# Altium schematic symbol library LED.SchLib: 21 symbols
Pins are listed as number, name and electrical type; pins without a type are passive.

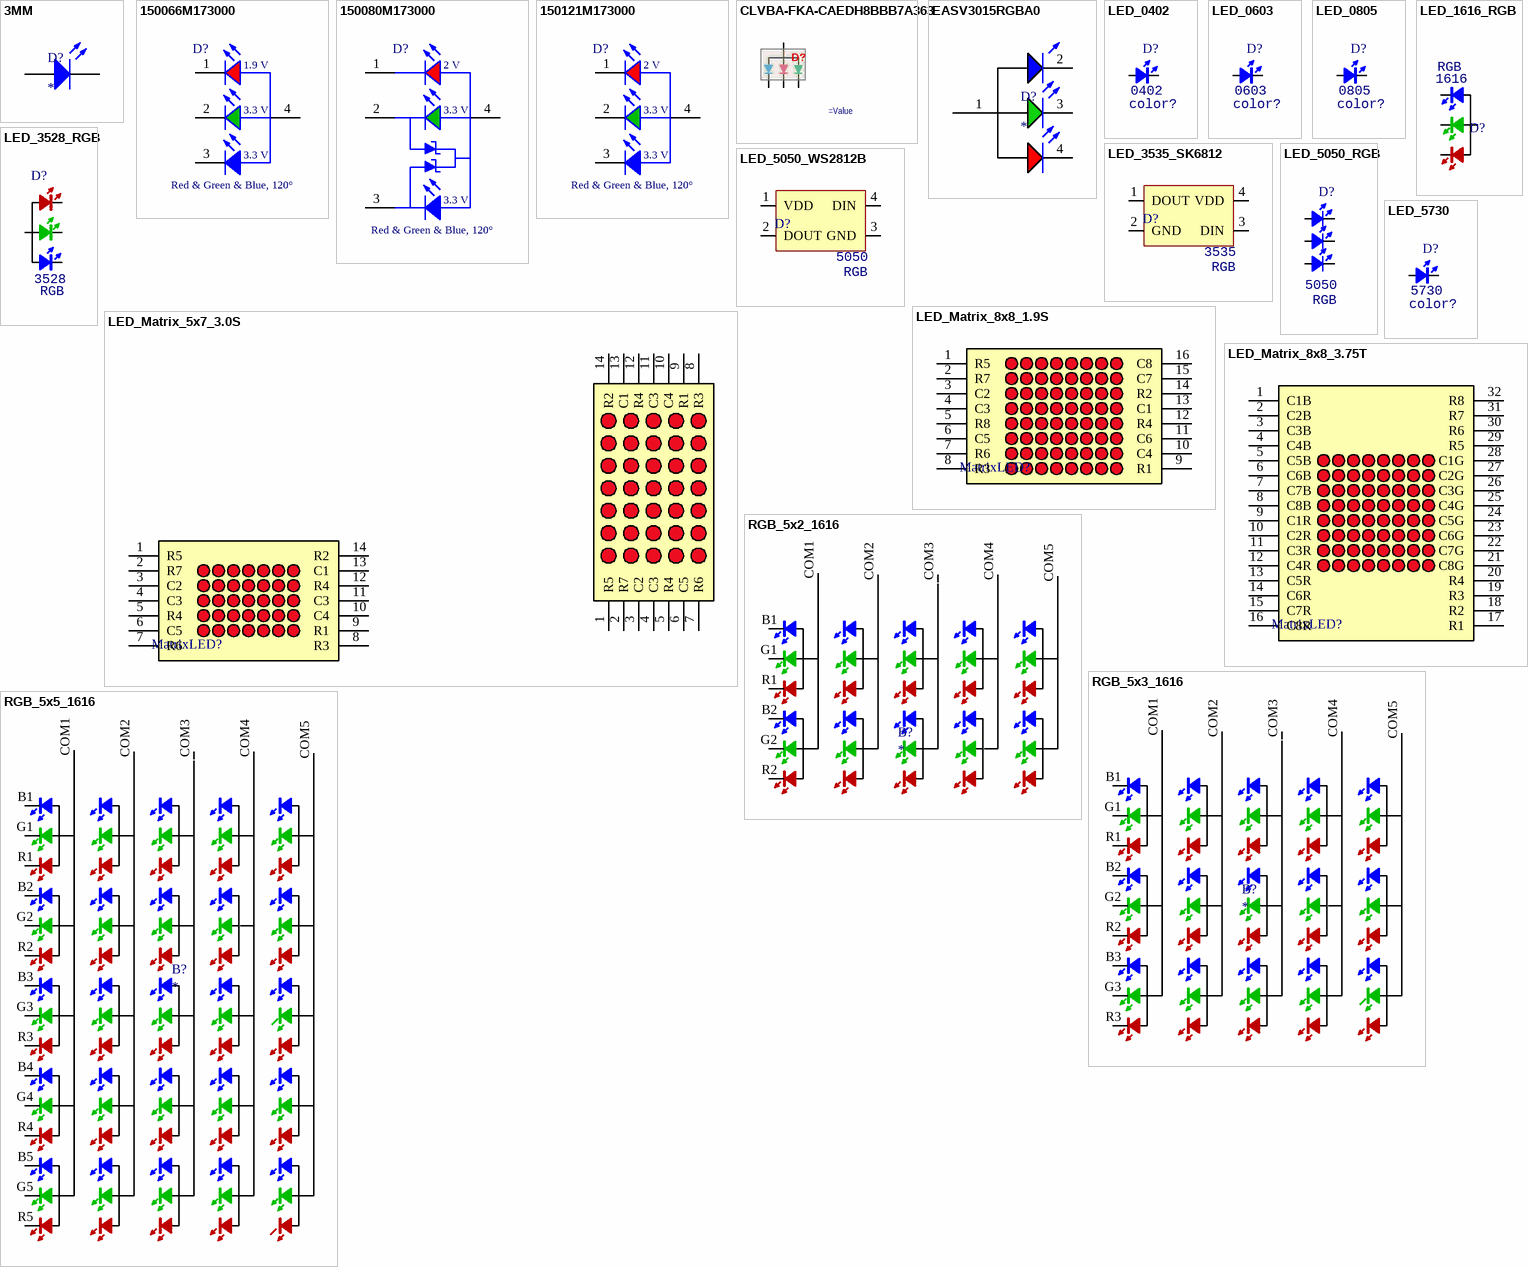
[diagram p0: symbols 3MM to RGB_5x5_1616]

## 3MM
designator D?
pins: 1 A, 2 K

## 150066M173000
designator D?, comment Red & Green & Blue, 120°
WL-SFCW SMD Full-color Chip LED Waterclear, size 0606, Red & Green & Blue, 120°; Part Number: 150066M173000; Forward Voltage: 3.3 V@Blue, 3.3 V@Green, 1.9 V@Red; Peak Wavelength: 468 nm@Blue, 520 nm@Green, 636 nm@Red; Dominant Wavelength: 470 nm@Blue, 527 nm@Green, 622 nm@Red; Luminous Intensity: 80 mcd@Blue, 360 mcd@Green, 70 mcd@Red; ComponentLink1Description: Manufacturer; ComponentLink1URL: http://www.we-online.de; ComponentLink2Description: Datasheet; ComponentLink2URL: http://katalog.we-online.de/led/datasheet/150066M173000.pdf; Published Date: May 2018; Publisher: Wurth Elektronik; Size: 0606; Viewing Angle: 120°; Operating Temperature: -40 to 85 degC; Emitting Color: Red & Green & Blue; Mounting Technology: SMT
footprint WL-SFCW_0606
pins: 1 K, 2 K, 3 K, 4 A
text: 1.9 V; 3.3 V

## 150080M173000
designator D?, comment Red & Green & Blue, 120°
WL-SFCW SMD Full-color Chip LED Waterclear, size 0805, Red & Green & Blue, 120°; Part Number: 150080M173000; Forward Voltage: 3.3 V@Blue, 3.3 V@Green, 2 V@Red; Peak Wavelength: 468 nm@Blue, 520 nm@Green, 632 nm@Red; Dominant Wavelength: 470 nm@Blue, 525 nm@Green, 624 nm@Red; Luminous Intensity: 70 mcd@Blue, 285 mcd@Green, 112 mcd@Red; ComponentLink1Description: Manufacturer; ComponentLink1URL: http://www.we-online.de; ComponentLink2Description: Datasheet; ComponentLink2URL: http://katalog.we-online.de/led/datasheet/150080M173000.pdf; Published Date: May 2018; Publisher: Wurth Elektronik; Size: 0805; Viewing Angle: 120°; Operating Temperature: -40 to 85 degC; Emitting Color: Red & Green & Blue; Mounting Technology: SMT
footprint WL-SFCW_0805
pins: 1 K, 2 K, 3 K, 4 A
text: 2 V; 3.3 V

## 150121M173000
designator D?, comment Red & Green & Blue, 120°
WL-SFCW SMD Full-color Chip LED Waterclear, size 1210, Red & Green & Blue, 120°; Part Number: 150121M173000; Forward Voltage: 3.3 V@Blue, 3.3 V@Green, 2 V@Red; Peak Wavelength: 468 nm@Blue, 520 nm@Green, 632 nm@Red; Dominant Wavelength: 470 nm@Blue, 525 nm@Green, 624 nm@Red; Luminous Intensity: 80 mcd@Blue, 285 mcd@Green, 70 mcd@Red; ComponentLink1Description: Manufacturer; ComponentLink1URL: http://www.we-online.de; ComponentLink2Description: Datasheet; ComponentLink2URL: http://katalog.we-online.de/led/datasheet/150121M173000.pdf; Published Date: May 2018; Publisher: Wurth Elektronik; Size: 1210; Viewing Angle: 120°; Operating Temperature: -40 to 85 degC; Emitting Color: Red & Green & Blue; Mounting Technology: SMT
footprint WL-SFCW_1210
pins: 1 K, 2 K, 3 K, 4 A
text: 2 V; 3.3 V

## CLVBA-FKA-CAEDH8BBB7A363
designator D?
LED RGB-Cree; Manufacturer 1: Cree; Manufacturer Part Number 1: CLVBA-FKA-CAEDH8BBB7A363; Colour: Blue,Green,Red; Lens Colour: Clear; Viewing Angle: 110°; Lens Style: Round,Diffused; Forward Current: 20mA; Forward Voltage: 3V; Luminous Intensity: 74mcd; Dominant Wavelength: 470nm; Number of Elements: 3; Max Power Dissipation: 130mW; Number of LEDs: 1; Reverse Voltage: 5V; Company: HiberXen Electronics; Mount: Surface Mount; Case/Package: PLCC; Number of Pins: 4; Min Operating Temperature: -40°C; Max Operating Temperature: 100°C; Packaging: Tape and Reel; Package Quantity: 2000; Test Current: 20mA; Length: 2.8mm; Height: 1.9mm; Width: 2.8mm; Depth: 3.2mm; Radiation Hardening: No; REACH SVHC: Unknown; ComponentLink1URL: https://datasheet.ciiva.com/2111/clvbafka-2111860.pdf; ComponentLink1Description: https://datasheet.ciiva.com/2111/clvbafka-2111860.pdf; ComponentLink2URL: https://datasheet.ciiva.com/26857/getdatasheetpartid-490977-26857209.pdf; ComponentLink2Description: https://datasheet.ciiva.com/26857/getdatasheetpartid-490977-26857209.pdf; ComponentLink3URL: https://datasheet.ciiva.com/2111/clvbafka-2111861.pdf; ComponentLink3Description: https://datasheet.ciiva.com/2111/clvbafka-2111861.pdf; ComponentLink4URL: https://datasheet.ciiva.com/2111/clvbafka-2111862.pdf; ComponentLink4Description: https://datasheet.ciiva.com/2111/clvbafka-2111862.pdf; Pricing 1: 1=0.42, 10=0.395, 100=0.3648, 1000=0.32631 (USD); Stock 1: 42186; Supplier 1: Digi-Key; Supplier Part Number 1: CLVBA-FKA-CAEDH8BBB7A363CT-ND
footprint LED PLCC-4
pins: 1 Blue, 2 A, 3 Red, 4 Green

## EASV3015RGBA0
designator D?
footprint EASV3015RGBA0
pins: 1, 2 B, 3 G, 4 R

## LED_0402
designator D?, comment Type: 0402  (hidden comment: color?)
LED; Value: color?
footprint LED_0402_RED
footprint LED_0402_BLUE
footprint LED_0402_ORANGE
footprint LED_0402_YELLOW
footprint LED_0402_GREEN
pins: 1 A, 2 K

## LED_0603
designator D?, comment Type: 0603  (hidden comment: color?)
LED; Value: color?
footprint LED_0603_GREEN
footprint LED_0603_BLUE
footprint LED_0603_RED
footprint LED_0603_ORANGE
footprint LED_0603_YELLOW
pins: 1 A, 2 K

## LED_0805
designator D?, comment Type: 0805  (hidden comment: color?)
LED; Value: color?
footprint LED_0805_GREEN
footprint LED_0805_BLUE
footprint LED_0805_RED
footprint LED_0805_ORANGE
footprint LED_0805_YELLOW
pins: 1 A, 2 K

## LED_1616_RGB
designator D?, comment Type: 1616  (hidden comment: RGB)
LED; Value: RGB
footprint LED_1616_RGB
pins: 1 R, 2 G, 3 B, 4 A

## LED_3528_RGB
designator D?, comment Type: 3528  (hidden comment: RGB)
LED; Value: RGB
footprint LED_3528_RGB
pins: 1 R, 2 G, 3 B, 4 A

## LED_3535_SK6812
designator D?, comment Type: 3535  (hidden comment: RGB)
LED; Value: RGB
footprint LED_3535_4P
pins: 1 DOUT, 2 GND, 3 DIN, 4 VDD

## LED_5050_RGB
designator D?, comment Type: 5050  (hidden comment: RGB)
LED; Value: RGB
footprint LED_5050_6P
pins: 1 K, 2 K, 3 K, 4 A, 5 A, 6 A

## LED_5050_WS2812B
designator D?, comment Type: 5050  (hidden comment: RGB)
LED; Value: RGB
footprint LED_5050_WS2812B
pins: 1 VDD, 2 DOUT, 3 GND, 4 DIN

## LED_5730
designator D?  Type: 5730  Type: color?
LED
footprint LED_5730_WHITE
pins: 1 A, 2 K

## LED_Matrix_5x7_3.0S
designator MatrixLED?  (value not drawn)
MatrixLED
footprint LED_Matrix_5x7_3.0S
pins: 1 R5, 1 R5, 2 R7, 2 R7, 3 C2, 3 C2, 4 C3, 4 C3, 5 R4, 5 R4, 6 C5, 6 C5, 7 R6, 7 R6, 8 R3, 8 R3, 9 R1, 9 R1, 10 C4, 10 C4, 11 C3, 11 C3, 12 R4, 12 R4, 13 C1, 13 C1, 14 R2, 14 R2

## LED_Matrix_8x8_1.9S
designator MatrixLED?  (value not drawn)
MatrixLED
footprint LED_Matrix_8x8_1.9S
pins: 1 R5, 2 R7, 3 C2, 4 C3, 5 R8, 6 C5, 7 R6, 8 R3, 9 R1, 10 C4, 11 C6, 12 R4, 13 C1, 14 R2, 15 C7, 16 C8

## LED_Matrix_8x8_3.75T
designator MatrixLED?  (value not drawn)
MatrixLED
footprint LED_Matrix_8x8_3.75T
pins: 1 C1B, 2 C2B, 3 C3B, 4 C4B, 5 C5B, 6 C6B, 7 C7B, 8 C8B, 9 C1R, 10 C2R, 11 C3R, 12 C4R, 13 C5R, 14 C6R, 15 C7R, 16 C8R, 17 R1, 18 R2, 19 R3, 20 R4, 21 C8G, 22 C7G, 23 C6G, 24 C5G, 25 C4G, 26 C3G, 27 C2G, 28 C1G, 29 R5, 30 R6, 31 R7, 32 R8

## RGB_5x2_1616
designator B?
footprint RGB_1616_5X2
pins: B1 1, B2 4, COM1 A, COM2 A, COM3 A, COM4 A, COM5 A, G1 2, G2 5, R1 3, R2 6

## RGB_5x3_1616
designator B?
footprint RGB_1616_5X3
pins: B1 1, B2 4, B3 7, COM1 A, COM2 A, COM3 A, COM4 A, COM5 A, G1 2, G2 5, G3 8, R1 3, R2 6, R3 9

## RGB_5x5_1616
designator B?
footprint RGB_1616_5X5
pins: B1 1, B2 4, B3 7, B4 10, B5 13, COM1 A, COM2 A, COM3 A, COM4 A, COM5 A, G1 2, G2 5, G3 8, G4 11, G5 14, R1 3, R2 6, R3 9, R4 12, R5